# Altium footprint library CommonDevs_Voloschuk.PcbLib: 4 footprints
Each footprint in its own frame and in the unit in brackets; x right, y up, seen from the top. Pads: shape width x height; smd on the part's side, far side on the other; paste and mask are expansions set on the pad; w line width, h text height; cw(c..) or ccw(c..) is an arc to the next point about the centre after c.
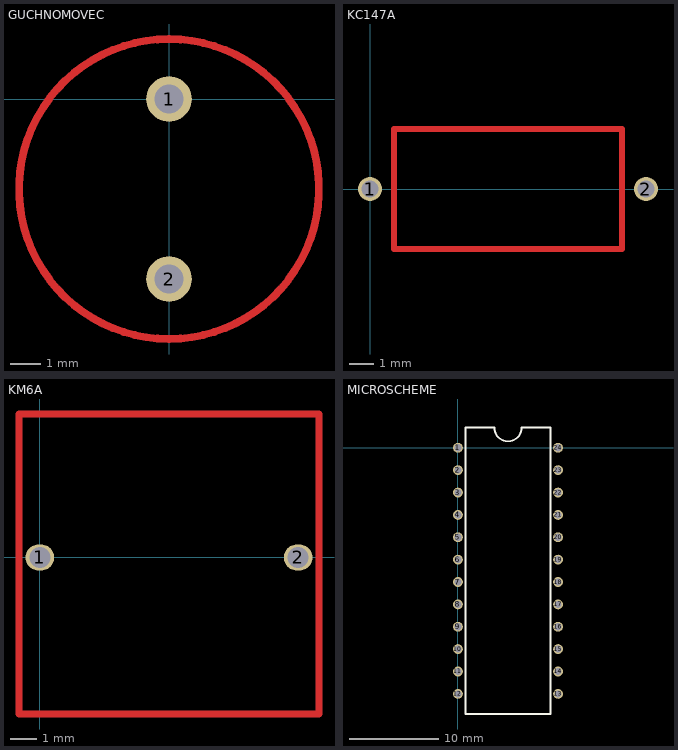
[diagram p0: the footprints below, top view; thin cyan lines are the x and y axes]

## GUCHNOMOVEC [mil]
pads (2):
  round 60 hole 38: 1(0,0) 2(0,-236.22)
Top Layer:
  lines w10: 0,-314.96 ccw(c0,-118.11) 0,78.74 ccw(c0,-118.11) 0,-314.96

## KC147A [mm]
pads (2):
  round 1 hole 0.7: 1(0,0) 2(11.5,0)
Top Layer:
  lines w0.254: 1,-2.5 10.5,-2.5 10.5,2.5 1,2.5 1,-2.5

## KM6A [mm]
pads (2):
  oval 1.1x1 hole 0.8: 1(0,0) 2(9.9,0)
Top Layer:
  lines w0.254: -0.8,-6 10.7,-6 10.7,5.5 -0.8,5.5 -0.8,-6

## MICROSCHEME [mm]
pads (24):
  round 1.1 hole 0.8: 1(0,0) 2(0,-2.5) 3(0,-5) 4(0,-7.5) 5(0,-10) 6(0,-12.5) 7(0,-15) 8(0,-17.5) 9(0,-20) 10(0,-22.5) 11(0,-25) 12(0,-27.5) 13(11.203,-27.5) 14(11.203,-25) 15(11.203,-22.5) 16(11.203,-20) 17(11.203,-17.5) 18(11.203,-15) 19(11.203,-12.5) 20(11.203,-10) 21(11.203,-7.5) 22(11.203,-5) 23(11.203,-2.5) 24(11.203,0)
Top Overlay:
  lines w0.21: 0.851,-29.75 10.352,-29.75 10.352,2.25 7.126,2.25 cw(c5.602,2.25) 4.078,2.25 0.851,2.25 0.851,-29.75